# Altium footprint library MY_PCB_Lib.PcbLib: 310 footprints (part 19 of 20)
Each footprint in its own frame and in the unit in brackets; x right, y up, seen from the top. Pads: shape width x height; smd on the part's side, far side on the other; paste and mask are expansions set on the pad; w line width, h text height; cw(c..) or ccw(c..) is an arc to the next point about the centre after c.
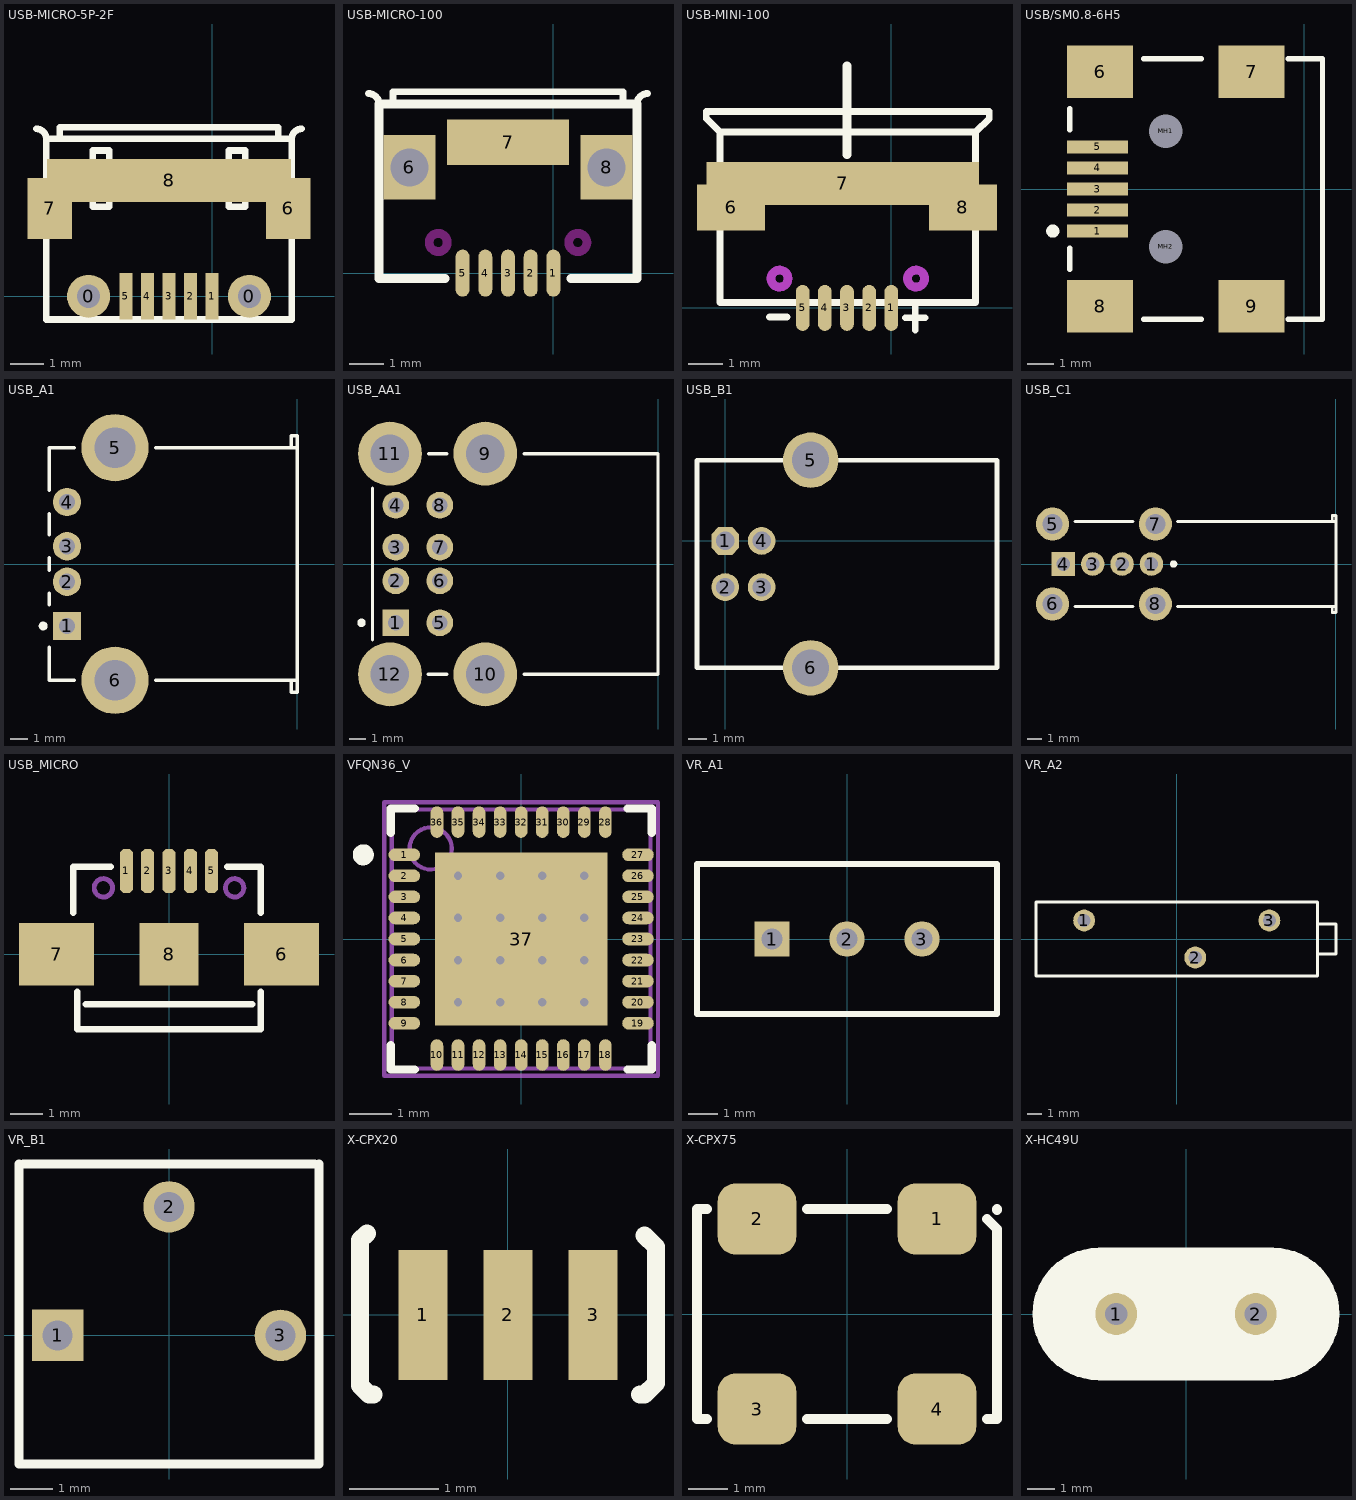
[diagram p18: the footprints below, top view; thin cyan lines are the x and y axes]

## USB-MICRO-5P-2F [mm]
pads (10):
  round 1.3 hole 0.7: 0(-3.725,0) 0(1.125,0)
  rect 0.4x1.4 smd: 1(0,0) 2(-0.65,0) 3(-1.3,0) 4(-1.95,0) 5(-2.6,0)
  rect 1.35x1.85 all layers, no hole: 6(2.3,2.65) 7(-4.9,2.65)
  rect 7.35x1.3 smd: 8(-1.3,3.5)
Top Overlay:
  lines w0.2: -5.3,5.05 cw(c-5.3,4.75) -5,4.75 2.4,4.75 cw(c2.7,4.75) 2.7,5.05 ; -5,4.8 -5,-0.7 2.4,-0.7 2.4,4.8 ; -4.6,4.75 -4.6,5.1 2,5.1 2,4.75 ; -3.6,2.7 -3.6,4.4 -3.1,4.4 -3.1,2.7 -3.6,2.7 ; 0.5,2.7 0.5,4.4 1,4.4 1,2.7 0.5,2.7
Bottom Overlay:
  lines w0.2: -5.3,-0.7 -5.3,5.05 2.7,5.05 2.7,-0.7 -5.3,-0.7
Mechanical 3:
  lines w0.254: -5.25,2.05 -5.25,3.25 -4.55,3.25 -4.55,2.05 -5.25,2.05 ; 1.95,2.05 2.65,2.05 2.65,3.25 1.95,3.25 1.95,2.05

## USB-MICRO-100 [mm]
pads (8):
  oval 0.4x1.35 smd: 1(0,0) 2(-0.65,0) 3(-1.3,0) 4(-1.95,0) 5(-2.6,0)
  rect 1.5x1.85 hole 1.1: 6(-4.125,3.03) 8(1.525,3.03)
  rect 3.5x1.3 smd: 7(-1.3,3.75)
Top Overlay:
  lines w0.2: -5.3,5.15 cw(c-5.3,4.85) -5,4.85 ; -4.6,4.85 -4.6,5.2 2,5.2 2,4.85 ; 2.4,4.85 cw(c2.7,4.85) 2.7,5.15
  lines w0.254: -3.1,-0.15 -5,-0.15 -5,4.85 2.4,4.85 2.4,-0.15 0.5,-0.15
Bottom Overlay:
  lines w0.254: -5.4,4.65 2.8,4.65 ; -5.4,-0.15 2.8,-0.15 2.8,5.25 -5.4,5.25 -5.4,-0.15
Keep-Out Layer:
  circle w0.254: c-3.3,0.88 r0.26
  circle w0.254: c0.7,0.88 r0.26

## USB-MINI-100 [mm]
pads (8):
  oval 0.4x1.35 smd: 1(0,0) 2(-0.65,0) 3(-1.3,0) 4(-1.95,0) 5(-2.6,0)
  rect 2x1.35 smd: 6(-4.7,2.95) 8(2.1,2.95)
  rect 8x1.27 smd: 7(-1.422,3.65)
Top Overlay:
  lines w0.2: -3.57,-0.27 -3.06,-0.27 ; 0.41,-0.29 0.99,-0.29 ; 0.7,-0.65 0.7,0.05 ; -5.026,5.158 -5.426,5.558 -5.426,5.758 2.874,5.758 2.874,5.558 2.474,5.158 ; -5.026,5.158 -5.026,0.158 2.474,0.158 2.474,5.158 ; -5.026,5.158 2.474,5.158
  lines w0.254: -1.3,4.5 -1.3,7.1
Keep-Out Layer:
  circle w0.254: c0.725,0.86 r0.25
  circle w0.254: c-3.28,0.86 r0.25
Mechanical 1:
  circle w0.254: c-3.28,0.86 r0.25
  circle w0.254: c0.725,0.86 r0.25

## USB/SM0.8-6H5 [mm]
pads (11):
  rect 2.3x0.5 smd: 1(-7.85,-1.6) 2(-7.85,-0.8) 3(-7.85,0) 4(-7.85,0.8) 5(-7.85,1.6)
  rect 2.5x2 smd: 6(-7.75,4.45) 7(-1.996,4.45) 8(-7.75,-4.45) 9(-1.996,-4.45)
  round 0.6 hole 1.27 unplated: MH1(-5.25,2.2) MH2(-5.25,-2.2)
Top Overlay:
  circle w0.25: c-9.55,-1.6 r0.125
  lines w0.2: -8.9,-3.05 -8.9,-2.25 ; -8.9,2.25 -8.9,3.05 ; -6.1,-4.95 -3.9,-4.95 ; -6.1,4.95 -3.9,4.95 ; -0.6,-4.95 0.7,-4.95 0.7,4.95 -0.6,4.95

## USB_A1 [mm]
height 7.01
pads (6):
  rect 1.6x1.6 hole 0.92: 1(-12.99,-3.5)
  round 1.6 hole 0.92: 2(-12.99,-1) 3(-12.99,1) 4(-12.99,3.5)
  round 3.8 hole 2.3: 5(-10.28,6.57) 6(-10.28,-6.57)
Top Overlay:
  circle w0.25: c-14.34,-3.5 r0.125
  lines w0.2: -14,-4.7 -14,-6.565 -12.58,-6.565 ; -14,-2.3 -14,-1.66 ; -14,-0.34 -14,0.34 ; -14,1.66 -14,2.84 ; -14,4.16 -14,6.565 -12.58,6.565 ; -7.98,-6.565 0,-6.565 ; -7.98,6.565 0,6.565 ; -0.32,-6.565 -0.32,-7.25 0,-7.25 0,-6.565 ; -0.32,6.565 -0.32,7.25 0,7.25 0,6.565 ; 0,-6.565 0,6.565

## USB_AA1 [mm] "USB母座A型"
height 15.51
pads (12):
  rect 1.6x1.6 hole 0.92: 1(-15.61,-3.5)
  round 1.6 hole 0.92: 2(-15.61,-1) 3(-15.61,1) 4(-15.61,3.5) 5(-12.99,-3.5) 6(-12.99,-1) 7(-12.99,1) 8(-12.99,3.5)
  round 3.8 hole 2.3: 9(-10.28,6.57) 10(-10.28,-6.57) 11(-15.96,6.57) 12(-15.96,-6.57)
Top Overlay:
  circle w0.25: c-17.65,-3.5 r0.125
  lines w0.2: -17,-4.51 -17,4.51 ; -13.68,-6.565 -12.58,-6.565 ; -13.66,6.565 -12.58,6.565 ; -7.97,-6.565 0,-6.565 0,6.565 -7.97,6.565

## USB_B1 [mil] "USB方孔"
height 314.96
pads (6):
  oct 60x60 hole 40: 1(0,0)
  round 60 hole 40: 2(0,-100) 3(78.74,-100) 4(78.74,0)
  round 120 hole 80: 5(185.04,175) 6(185.04,-275)
Top Overlay:
  lines w10: -61.26,-275 -61.26,175 588.74,175 588.74,-275 -61.26,-275

## USB_C1 [mm] "侧卧USB"
height 13.83
pads (8):
  round 1.6 hole 0.92: 1(-12.56,0) 2(-14.56,0) 3(-16.56,0)
  rect 1.6x1.6 hole 0.92: 4(-18.56,0)
  round 2.25 hole 1.35: 5(-19.29,2.72) 6(-19.29,-2.72) 7(-12.29,2.72) 8(-12.29,-2.72)
Top Overlay:
  circle w0.25: c-11.047,0 r0.125
  lines w0.2: -17.773,-2.88 -13.807,-2.88 ; -17.773,2.88 -13.807,2.88 ; -10.773,-2.88 0,-2.88 ; -10.773,2.88 0,2.88 ; -0.254,-2.88 -0.254,-3.302 0,-3.302 0,-2.88 ; -0.254,2.88 -0.254,3.302 0,3.302 0,2.88 ; 0,-2.88 0,2.88

## USB_MICRO [mm] "USB方孔"
height 8
pads (8):
  oct 0.4x1.35 smd: 1(-1.3,2.54) 2(-0.65,2.54) 3(0,2.54) 4(0.65,2.54) 5(1.3,2.54)
  rect 2.286x1.9 smd: 6(3.429,0) 7(-3.429,0)
  rect 1.8x1.9 smd: 8(0,0)
Top Overlay:
  lines w0.2: -2.921,1.27 -2.921,2.667 -1.778,2.667 ; -2.794,-1.143 -2.794,-2.286 2.794,-2.286 2.794,-1.143 ; -2.54,-1.524 2.54,-1.524 ; 1.778,2.667 2.794,2.667 2.794,1.27
Mechanical 1:
  circle w0.15: c2,2.023 r0.28
  circle w0.15: c-2,2.023 r0.28

## VFQN36_V [mm] "QFN, 36-Leads, Body 6x6mm, Pitch 0.5mm, ST Recommended"
height 1
pads (37):
  oval 0.75x0.3 smd: 1(-2.775,2) 2(-2.775,1.5) 3(-2.775,1) 4(-2.775,0.5) 5(-2.775,0) 6(-2.775,-0.5) 7(-2.775,-1) 8(-2.775,-1.5) 9(-2.775,-2) 19(2.775,-2) 20(2.775,-1.5) 21(2.775,-1) 22(2.775,-0.5) 23(2.775,0) 24(2.775,0.5) 25(2.775,1) 26(2.775,1.5) 27(2.775,2)
  oval 0.3x0.75 smd: 10(-2,-2.755) 11(-1.5,-2.755) 12(-1,-2.755) 13(-0.5,-2.755) 14(0,-2.755) 15(0.5,-2.755) 16(1,-2.755) 17(1.5,-2.755) 18(2,-2.755) 28(2,2.775) 29(1.5,2.775) 30(1,2.775) 31(0.5,2.775) 32(0,2.775) 33(-0.5,2.775) 34(-1,2.775) 35(-1.5,2.775) 36(-2,2.775)
  rect 4.1x4.1 smd: 37(0,0)
via -1.5,1.5 diameter 0.4 hole 0.2
via -0.5,1.5 diameter 0.4 hole 0.2
via 0.5,1.5 diameter 0.4 hole 0.2
via 1.5,1.5 diameter 0.4 hole 0.2
via -1.5,0.5 diameter 0.4 hole 0.2
via -0.5,0.5 diameter 0.4 hole 0.2
via 0.5,0.5 diameter 0.4 hole 0.2
via 1.5,0.5 diameter 0.4 hole 0.2
via -1.5,-0.5 diameter 0.4 hole 0.2
via -0.5,-0.5 diameter 0.4 hole 0.2
via 0.5,-0.5 diameter 0.4 hole 0.2
via 1.5,-0.5 diameter 0.4 hole 0.2
via -1.5,-1.5 diameter 0.4 hole 0.2
via -0.5,-1.5 diameter 0.4 hole 0.2
via 0.5,-1.5 diameter 0.4 hole 0.2
via 1.5,-1.5 diameter 0.4 hole 0.2
Top Overlay:
  circle w0.25: c-3.75,2 r0.125
  lines w0.2: -3.1,-2.525 -3.1,-3.1 -2.525,-3.1 ; -3.1,2.525 -3.1,3.1 -2.525,3.1 ; 2.525,-3.1 3.1,-3.1 3.1,-2.525 ; 2.525,3.1 3.1,3.1 3.1,2.525
Mechanical 13:
  circle w0.1: c-2.15,2.15 r0.5
  lines w0.1: -3.075,3.05 -3.075,-3.075 3.075,-3.075 3.075,3.075 -3.075,3.075
Mechanical 15:
  lines w0.1: -0.5,0 0.5,0 ; 0,-0.5 0,0.5 ; -3.25,-3.25 -3.25,3.25 3.25,3.25 3.25,-3.25 -3.25,-3.25
3D body: height 1, standoff 0, extent -3.05,-3.05 3.05,3.05

## VR_A1 [mm] "Potentiometer; 3 Leads"
height 1.1
pads (3):
  rect 1.2x1.2 hole 0.7: 1(-2.54,0)
  round 1.2 hole 0.7: 2(0,0) 3(2.54,0)
Top Overlay:
  lines w0.2: -5.08,-2.54 -5.08,2.54 5.08,2.54 5.08,0 5.08,-2.54 -5.08,-2.54
3D body: height 10, standoff 0, extent -5.08,-2.54 5.08,2.54
3D body: height 10.5, standoff 10, extent 3.311,-1.755 4.327,-0.739

## VR_A2 [mm]
height 6.5
pads (3):
  round 1.5 hole 0.9: 1(-6.35,1.27) 2(1.27,-1.27) 3(6.35,1.27)
Top Overlay:
  lines w0.2: 9.652,-1.016 10.922,-1.016 10.922,1.016 9.652,1.016 ; -9.652,-2.54 9.652,-2.54 9.652,2.54 -9.652,2.54 -9.652,-2.54

## VR_B1 [mm] "Potentiometer; 3 Leads"
height 12
pads (3):
  rect 1.2x1.2 hole 0.7: 1(-2.6,0)
  round 1.2 hole 0.7: 2(0,3) 3(2.6,0)
Top Overlay:
  lines w0.2: -3.5,4 -3.5,-3 3.5,-3 3.5,4 ; -3.4,4 3.4,4

## X-CPX20 [mm] "贴片晶振"
pads (3):
  rect 0.55x1.45 smd: 1(-0.95,0) 2(0,0) 3(0.95,0)
Top Overlay:
  lines w0.2: -1.576,0.911 -1.651,0.836 -1.651,-0.789 -1.551,-0.889 -1.501,-0.889 ; 1.474,-0.889 1.524,-0.889 1.651,-0.762 1.651,0.762 1.524,0.889

## X-CPX75 [mm]
height 14.8
pads (4):
  rrect50% 2x1.8 smd: 1(2.281,2.415) 2(-2.291,2.415) 3(-2.291,-2.411) 4(2.281,-2.411)
Top Overlay:
  lines w0.254: -3.561,-2.665 -3.815,-2.665 -3.815,2.669 -3.561,2.669 ; -1.021,-2.665 1.011,-2.665 ; -1.021,2.669 1.011,2.669 ; 3.551,-2.665 3.805,-2.665 3.805,2.161 3.551,2.415 ; 3.805,2.644 3.805,2.669

## X-HC49U [mil] "插件晶振"
height 157.48
pads (2):
  round 60 hole 32: 1(-100,0) 2(100,0)
Top Overlay:
  lines w10: -125,-90 cw(c-125,0) -125,90 125,90 cw(c125,0) 125,-90 -125,-90
  lines w177.17: -125,0 125,0